# Altium schematic symbol library Watertron_BFC_22u_HV.Schlib: 1 symbol
Pins are listed as number, name and electrical type; pins without a type are passive.

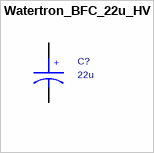
[diagram p0: symbol Watertron_BFC_22u_HV]

## Watertron_BFC_22u_HV
designator C?, comment 22u
pins: 1, 2
text: +